# Altium footprint library QUTMS_BatteryLibrary.PcbLib: 1 footprints
Each footprint in its own frame and in the unit in brackets; x right, y up, seen from the top. Pads: shape width x height; smd on the part's side, far side on the other; paste and mask are expansions set on the pad; w line width, h text height; cw(c..) or ccw(c..) is an arc to the next point about the centre after c.
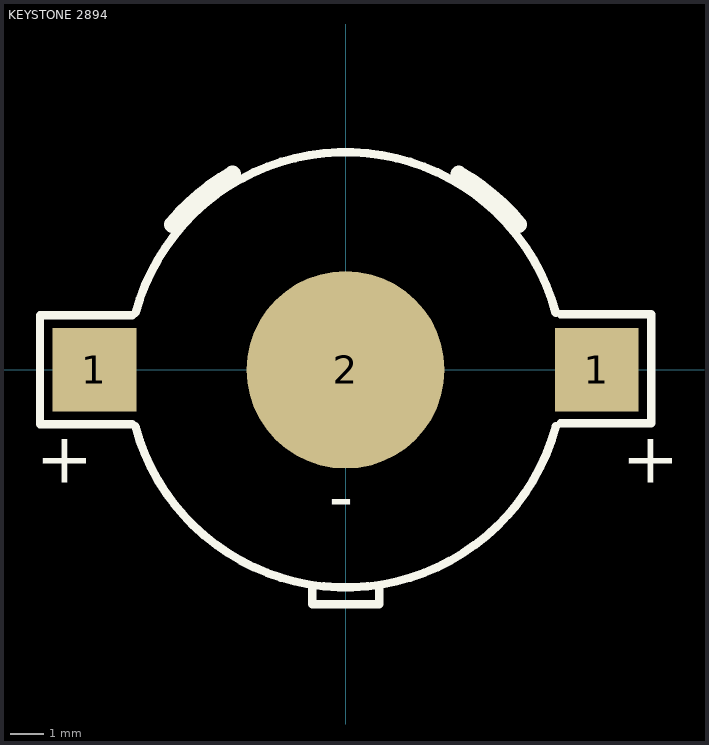
[diagram p0: the footprint, top view; thin cyan lines are the x and y axes]

## KEYSTONE 2894 [mm]
pads (3):
  rect 2.54x2.54 smd: 1(-7.62,0) 1(7.62,0)
  round 6 smd paste-25.4: 2(0,0)
Top Overlay:
  lines w0.254: -6.477,-1.651 -9.271,-1.651 -9.271,-1.27 -9.271,1.651 -6.477,1.651 ; -6.379,-1.709 ccw(c0,0) 6.379,-1.709 ; -6.374,1.726 cw(c0,0) 6.374,1.726 ; -1.016,-6.604 -1.016,-7.112 1.016,-7.112 1.016,-6.604 ; 6.519,-1.621 9.271,-1.621 9.271,-1.282 9.271,1.681 6.519,1.681
  lines w0.508: -5.254,4.408 cw(c0,0) -3.429,5.939 ; 3.429,5.939 cw(c0,0) 5.254,4.408
  text "+" at -9.398,-3.429 h1.52
  text "+" at 8.382,-3.429 h1.52
  text "-" at -0.508,-4.572 h1.52
3D body "keystone-PN2894.STEP": height 2.41, standoff 0, extent -9.017,-7.417 8.763,6.034